# Altium integrated library EC12S.IntLib: 1 symbol
Pins are listed as number, name and electrical type; pins without a type are passive.

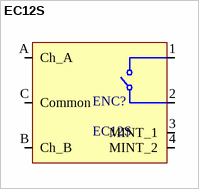
[diagram p0: symbol EC12S]

## EC12S
designator ENC?
EC12S 12/12 14mm pushpin /
footprint PCBComponent_1
pins: 1, 2, 3 MINT_1, 4 MINT_2, A Ch_A, B Ch_B, C Common